# Altium schematic symbol library HMC573LC3B.SchLib: 1 symbol
Pins are listed as number, name and electrical type; pins without a type are passive.

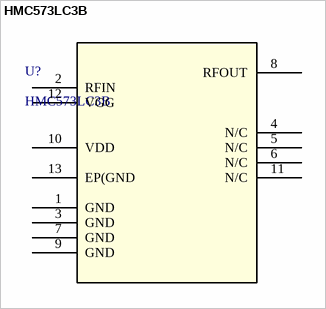
[diagram p0: symbol HMC573LC3B]

## HMC573LC3B
designator U?
x2 Active Multiplier SMT, 8 to 22 GHz Fout; Manufacturer_Name: Analog Devices Inc; Copyright: Copyright (C) 2026 Ultra Librarian. All rights reserved.; Manufacturer_Part_Number: HMC573LC3B; Datasheet: https://www.analog.com/media/en/technical-documentation/data-sheets/hmc573.pdf; RefDes: RefDes; Type: Type
footprint HE_12_1_ADI
pins: 1 GND, 2 RFIN, 3 GND, 4 N/C, 5 N/C, 6 N/C, 7 GND, 8 RFOUT, 9 GND, 10 VDD, 11 N/C, 12 VGG, 13 EP(GND